# EAGLE library part DMB-4770 (library DMB-4770-pcb)
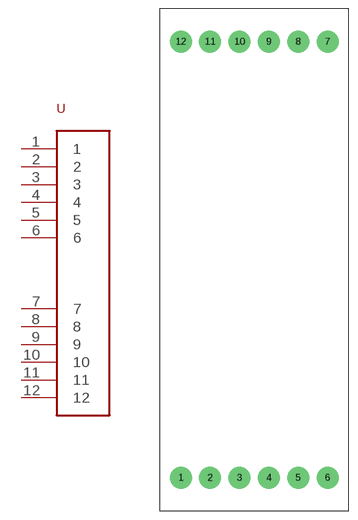
[diagram p0: symbol with the pads of DMB-4770-PCB; footprint DMB-4770-PCB]

Designator prefix -

## DMB-4770  [DMB-4770-PCB]
1  1
2  2
3  3
4  4
5  5
6  6
7  7
8  8
9  9
10  10
11  11
12  12

## Footprint DMB-4770-PCB (pad centres in mm)
drill 2.591 pad 3.81: 1 -12.7,-37.719; 2 -7.62,-37.719; 3 -2.54,-37.719; 4 2.54,-37.719; 5 7.62,-37.719; 6 12.7,-37.719; 7 12.7,37.719; 8 7.62,37.719; 9 2.54,37.719; 10 -2.54,37.719; 11 -7.62,37.719; 12 -12.7,37.719